# EAGLE library part DAC3550A (library micronas)
MPEG3 DECODER update 14.05.2001 librarian@cadsoft.de
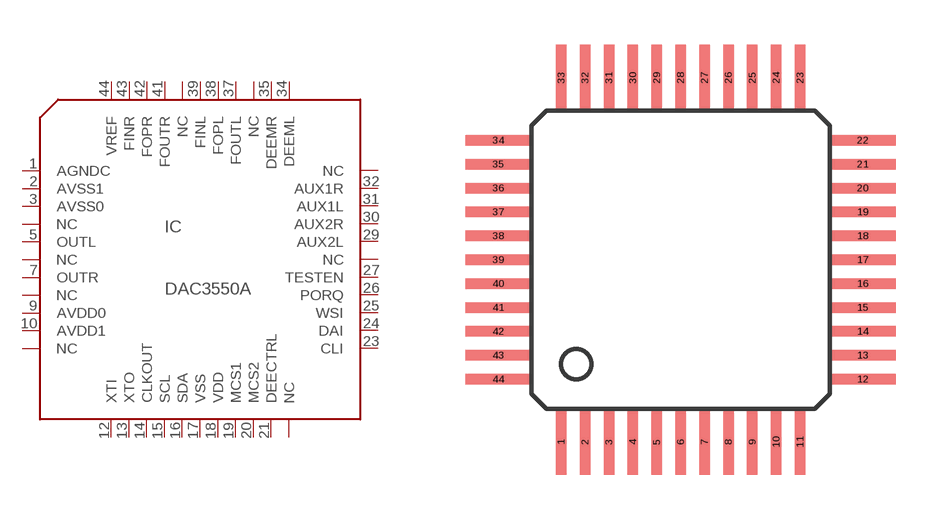
[diagram p1: symbol with the pads of MQFP44-2; footprint MQFP44-2]

Designator prefix IC

## DAC3550AD  [MQFP44-2]
1  AGNDC
2  AVSS1  in
3  AVSS0  in
4  NC4  nc
5  OUTL  out
6  NC6  nc
7  OUTR  out
8  NC8  nc
9  AVDD0  in
10  AVDD1  in
11  NC11  nc
12  XTI  in
13  XTO
14  CLKOUT  out
15  SCL
16  SDA
17  VSS  pwr
18  VDD  pwr
19  MCS1  in
20  MCS2  in
21  DEECTRL  in
22  NC22  nc
23  CLI  in
24  DAI  in
25  WSI  in
26  PORQ  in
27  TESTEN  in
28  NC28  nc
29  AUX2L  in
30  AUX2R  in
31  AUX1L  in
32  AUX1R  in
33  NC33  nc
34  DEEML  out
35  DEEMR  out
36  NC36  nc
37  FOUTL  out
38  FOPL
39  FINL
40  NC40  nc
41  FOUTR  out
42  FOPR
43  FINR
44  VREF  in

## Footprint MQFP44-2 (pad centres in mm)
Metric Quad Flat Pack
smd 0.35 x 2.2: 1 -4,-6.1; 2 -3.2,-6.1; 3 -2.4,-6.1; 4 -1.6,-6.1; 5 -0.8,-6.1; 6 0,-6.1; 7 0.8,-6.1; 8 1.6,-6.1; 9 2.4,-6.1; 10 3.2,-6.1; 11 4,-6.1; 23 4,6.1; 24 3.2,6.1; 25 2.4,6.1; 26 1.6,6.1; 27 0.8,6.1; 28 0,6.1; 29 -0.8,6.1; 30 -1.6,6.1; 31 -2.4,6.1; 32 -3.2,6.1; 33 -4,6.1
smd 2.2 x 0.35: 12 6.1,-4; 13 6.1,-3.2; 14 6.1,-2.4; 15 6.1,-1.6; 16 6.1,-0.8; 17 6.1,0; 18 6.1,0.8; 19 6.1,1.6; 20 6.1,2.4; 21 6.1,3.2; 22 6.1,4; 34 -6.1,4; 35 -6.1,3.2; 36 -6.1,2.4; 37 -6.1,1.6; 38 -6.1,0.8; 39 -6.1,0; 40 -6.1,-0.8; 41 -6.1,-1.6; 42 -6.1,-2.4; 43 -6.1,-3.2; 44 -6.1,-4